# Altium footprint library OL_0603_1608.PcbLib: 1 footprints
Each footprint in its own frame and in the unit in brackets; x right, y up, seen from the top. Pads: shape width x height; smd on the part's side, far side on the other; paste and mask are expansions set on the pad; w line width, h text height; cw(c..) or ccw(c..) is an arc to the next point about the centre after c.
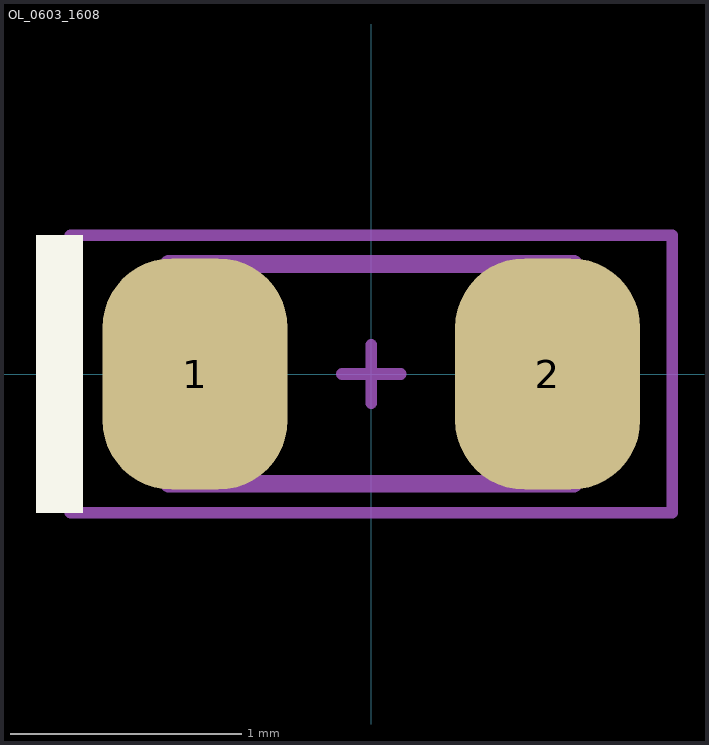
[diagram p0: the footprint, top view; thin cyan lines are the x and y axes]

## OL_0603_1608 [mm]
pads (2):
  rrect75% 0.8x1 smd mask+0.05: 1(-0.762,0) 2(0.762,0)
Top Overlay:
  rectangle: -1.45,-0.6 -1.247,0.6
Assembly Top:
  lines w0.076: -0.875,-0.475 -0.875,0.475 0.875,0.475 0.875,-0.475 -0.875,-0.475
Courtyard Top:
  lines w0.05: -0.127,0 0.127,0 ; 0,-0.127 0,0.127 ; -1.3,-0.6 -1.3,0.6 1.3,0.6 1.3,-0.6 -1.3,-0.6
3D body "LED 0603 APT1608 YELLOW.STEP": height 0.75, standoff 0, extent -0.8,-0.4 0.8,0.4